# EAGLE library part HW-519 (library UNIT_Biblioteca_Modulos)
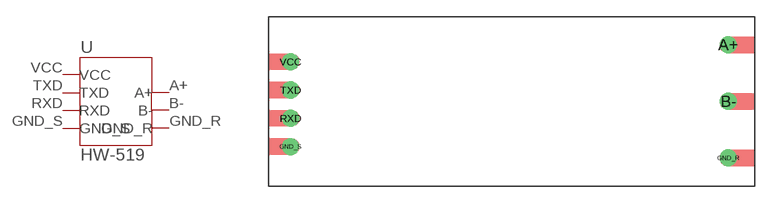
[diagram p17: symbol with the pads of HW-519; footprint HW-519]

Designator prefix U

## HW-519 (CLASS: Modules; DESCRIPTION: RS485-Serial Converter; MANUFACTURER_PART_NUMBER: HW-519; VENDOR_PART_NUMBER: AR4238; VENDOR_PRICE-STOCK: https://uelectronics.com/producto/convertidor-de-senal-ttl-a-rs485/)  [HW-519]
A+  A+
B-  B-
GND_R  GND_R
GND_S  GND_S
RXD  RXD
TXD  TXD
VCC  VCC

## Footprint HW-519 (pad centres in mm)
drill 1.02: A+ 19.485,5.08; B- 19.485,0; GND_R 19.485,-5.08; GND_S -19.885,-4.053; RXD -19.885,-1.513; TXD -19.885,1.027; VCC -19.885,3.567